# Altium footprint library QFN.PcbLib: 13 footprints
Each footprint in its own frame and in the unit in brackets; x right, y up, seen from the top. Pads: shape width x height; smd on the part's side, far side on the other; paste and mask are expansions set on the pad; w line width, h text height; cw(c..) or ccw(c..) is an arc to the next point about the centre after c.
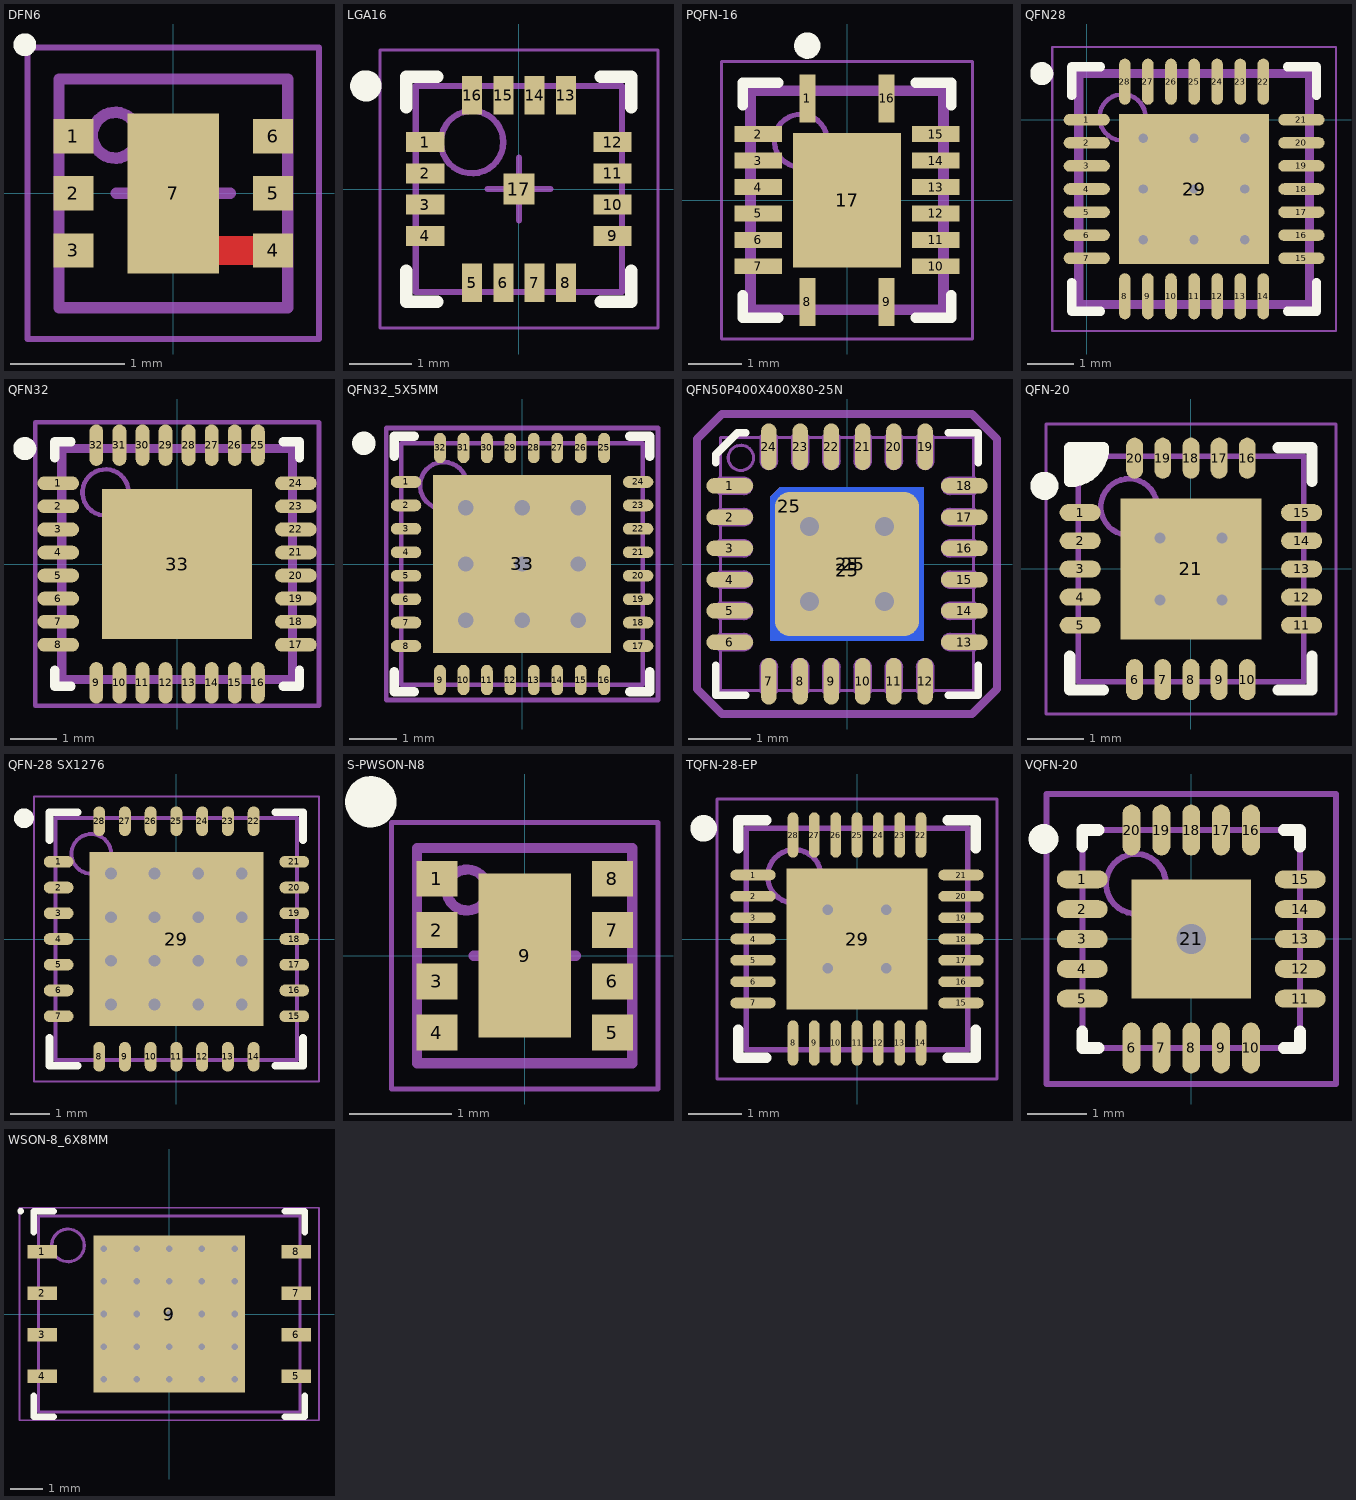
[diagram p0: the footprints below, top view; thin cyan lines are the x and y axes]

## DFN6 [mm] "DFN6 Body 2,00x2,00mm, Pitch 0,50mm, Thermal Pad 0,93x1,38mm, IPC Medium Density"
height 0.6
pads (7):
  rect 0.35x0.3 smd: 1(-0.874,0.5) 2(-0.874,0) 3(-0.874,-0.5) 4(0.874,-0.5) 5(0.874,0) 6(0.874,0.5)
  rect 0.8x1.4 smd: 7(0,0)
Top Layer:
  lines w0.255: 0.2,-0.5 0.874,-0.5
Top Overlay:
  circle w0.1: c-1.3,1.3 r0.05
Mechanical 13:
  circle w0.1: c-0.508,0.508 r0.2
  lines w0.1: -1,-1 -1,1 1,1 1,-1 -1,-1
Mechanical 15:
  lines w0.05: -1.275,-1.275 -1.275,1.275 1.275,1.275 1.275,-1.275 -1.275,-1.275
  lines w0.1: -0.5,0 0.5,0 ; 0,-0.5 0,0.5
3D body "DFN-6-2x2-0_5.STEP": height 0.8, standoff 0, extent -1.06,-1.05 1.06,1.05

## LGA16 [mm] "QFN, 16-Leads, Body 3,30x3,30mm, Pitch 0,50mm, Thermal Pad 0,50x0,50mm, IPC Medium Density"
height 1
pads (17):
  rect 0.61x0.32 smd: 1(-1.5,0.75) 2(-1.5,0.25) 3(-1.5,-0.25) 4(-1.5,-0.75) 9(1.5,-0.75) 10(1.5,-0.25) 11(1.5,0.25) 12(1.5,0.75)
  rect 0.32x0.61 smd: 5(-0.75,-1.5) 6(-0.25,-1.5) 7(0.25,-1.5) 8(0.75,-1.5) 13(0.75,1.5) 14(0.25,1.5) 15(-0.25,1.5) 16(-0.75,1.5)
  rect 0.5x0.5 smd: 17(0,0)
Top Overlay:
  circle w0.25: c-2.45,1.65 r0.125
  lines w0.2: -1.8,-1.31 -1.8,-1.8 -1.31,-1.8 ; -1.8,1.31 -1.8,1.8 -1.31,1.8 ; 1.31,-1.8 1.8,-1.8 1.8,-1.31 ; 1.31,1.8 1.8,1.8 1.8,1.31
Mechanical 13:
  circle w0.1: c-0.75,0.75 r0.5
  lines w0.1: -1.65,-1.65 1.65,-1.65 1.65,1.65 -1.65,1.65 -1.65,-1.65
Mechanical 15:
  lines w0.05: -2.225,-2.225 2.225,-2.225 2.225,2.225 -2.225,2.225 -2.225,-2.225
  lines w0.1: -0.5,0 0.5,0 ; 0,-0.5 0,0.5
3D body "QFN-16_3x3.STEP": height 0.9, standoff 0, extent -1.549,-1.521 1.493,1.521

## PQFN-16 [mm] "QFN, 16-Leads, Body 3,50x4,00mm, Pitch 1,50mm/0,50mm, Thermal Pad 2,05x2,55mm, IPC Medium Density"
height 1
pads (17):
  rect 0.3x0.9 smd: 1(-0.75,1.925) 8(-0.75,-1.925) 9(0.75,-1.925) 16(0.75,1.925)
  rect 0.9x0.3 smd: 2(-1.675,1.25) 3(-1.675,0.75) 4(-1.675,0.25) 5(-1.675,-0.25) 6(-1.675,-0.75) 7(-1.675,-1.25) 10(1.675,-1.25) 11(1.675,-0.75) 12(1.675,-0.25) 13(1.675,0.25) 14(1.675,0.75) 15(1.675,1.25)
  rect 2.05x2.55 smd: 17(0,0)
Top Overlay:
  circle w0.25: c-0.75,2.925 r0.125
  lines w0.2: -1.975,-1.8 -1.975,-2.225 -1.3,-2.225 ; -1.975,1.8 -1.975,2.225 -1.3,2.225 ; 1.3,-2.225 1.975,-2.225 1.975,-1.8 ; 1.3,2.225 1.975,2.225 1.975,1.8
Mechanical 13:
  circle w0.1: c-0.875,1.125 r0.5
  lines w0.2: -1.825,-2.075 1.825,-2.075 1.825,2.075 -1.825,2.075 -1.825,-2.075
Mechanical 15:
  lines w0.05: -2.375,-2.625 2.375,-2.625 2.375,2.625 -2.375,2.625 -2.375,-2.625
  lines w0.1: -0.5,0 0.5,0 ; 0,-0.5 0,0.5
3D body: height 1, standoff 0.05, extent -1.825,-2.075 1.825,2.075

## QFN28 [mm] "QFN, 28-Leads, Body 5,00x5,00mm, Pitch 0,50mm, Thermal Pad 3,25x3,25mm, IPC Medium Density"
height 1
pads (29):
  oval 1x0.25 smd: 1(0,0) 2(0,-0.5) 3(0,-1) 4(0,-1.5) 5(0,-2) 6(0,-2.5) 7(0,-3) 15(4.65,-3) 16(4.65,-2.5) 17(4.65,-2) 18(4.65,-1.5) 19(4.65,-1) 20(4.65,-0.5) 21(4.65,0)
  oval 0.25x1 smd: 8(0.825,-3.825) 9(1.325,-3.825) 10(1.825,-3.825) 11(2.325,-3.825) 12(2.825,-3.825) 13(3.325,-3.825) 14(3.825,-3.825) 22(3.825,0.825) 23(3.325,0.825) 24(2.825,0.825) 25(2.325,0.825) 26(1.825,0.825) 27(1.325,0.825) 28(0.825,0.825)
  rect 3.25x3.25 smd: 29(2.325,-1.5)
via 3.425,-2.6 diameter 0.5 hole 0.2
via 2.325,-2.6 diameter 0.5 hole 0.2
via 1.225,-2.6 diameter 0.5 hole 0.2
via 3.425,-1.5 diameter 0.5 hole 0.2
via 2.325,-1.5 diameter 0.5 hole 0.2
via 1.225,-1.5 diameter 0.5 hole 0.2
via 3.425,-0.4 diameter 0.5 hole 0.2
via 2.325,-0.4 diameter 0.5 hole 0.2
via 1.225,-0.4 diameter 0.5 hole 0.2
Top Overlay:
  circle w0.25: c-0.975,1 r0.125
  lines w0.2: -0.325,-3.525 -0.325,-4.15 0.3,-4.15 ; -0.325,0.525 -0.325,1.15 0.3,1.15 ; 4.35,-4.15 4.975,-4.15 4.975,-3.525 ; 4.35,1.15 4.975,1.15 4.975,0.525
Mechanical 1:
  text ".Designator" at 0.928,1.421 h1.52
Mechanical 13:
  circle w0.1: c0.775,0.05 r0.5
  lines w0.2: -0.175,-4 4.825,-4 4.825,1 -0.175,1 -0.175,-4
Mechanical 15:
  lines w0.05: -0.75,-4.575 5.4,-4.575 5.4,1.575 -0.75,1.575 -0.75,-4.575
  lines w0.1: 1.825,-1.5 2.825,-1.5 ; 2.325,-2 2.325,-1
3D body "QFN28_5x5.STEP": height 1, standoff 0, extent -0.175,-4 4.825,1

## QFN32 [mm] "QFN, 32-Leads, Body 5,00x5,00mm, Pitch 0,50mm, Thermal Pad 3,25x3,25mm, IPC Medium Density"
height 1
pads (33):
  oval 0.9x0.3 smd: 1(-2.575,1.75) 2(-2.575,1.25) 3(-2.575,0.75) 4(-2.575,0.25) 5(-2.575,-0.25) 6(-2.575,-0.75) 7(-2.575,-1.25) 8(-2.575,-1.75) 17(2.575,-1.75) 18(2.575,-1.25) 19(2.575,-0.75) 20(2.575,-0.25) 21(2.575,0.25) 22(2.575,0.75) 23(2.575,1.25) 24(2.575,1.75)
  oval 0.3x0.9 smd: 9(-1.75,-2.575) 10(-1.25,-2.575) 11(-0.75,-2.575) 12(-0.25,-2.575) 13(0.25,-2.575) 14(0.75,-2.575) 15(1.25,-2.575) 16(1.75,-2.575) 25(1.75,2.575) 26(1.25,2.575) 27(0.75,2.575) 28(0.25,2.575) 29(-0.25,2.575) 30(-0.75,2.575) 31(-1.25,2.575) 32(-1.75,2.575)
  rect 3.25x3.25 smd: 33(0,0)
Top Overlay:
  circle w0.25: c-3.3,2.5 r0.125
  lines w0.2: -2.65,-2.3 -2.65,-2.65 -2.3,-2.65 ; -2.65,2.3 -2.65,2.65 -2.3,2.65 ; 2.3,-2.65 2.65,-2.65 2.65,-2.3 ; 2.3,2.65 2.65,2.65 2.65,2.3
Mechanical 13:
  circle w0.1: c-1.55,1.55 r0.5
  lines w0.2: -2.5,-2.5 2.5,-2.5 2.5,2.5 -2.5,2.5 -2.5,-2.5
Mechanical 15:
  lines w0.1: -0.5,0 0.5,0 ; 0,-0.5 0,0.5 ; -3.075,-3.075 3.075,-3.075 3.075,3.075 -3.075,3.075 -3.075,-3.075
3D body "User Library-qfn32-5x5.step": height 0.8, standoff 0, extent -2.52,-2.51 2.5,2.51

## QFN32_5X5MM [mm] "QFN, 32-Leads, Body 5x5mm, Pitch 0.5mm, IPC High Density"
height 1
pads (33):
  oval 0.65x0.25 smd: 1(-2.475,1.75) 2(-2.475,1.25) 3(-2.475,0.75) 4(-2.475,0.25) 5(-2.475,-0.25) 6(-2.475,-0.75) 7(-2.475,-1.25) 8(-2.475,-1.75) 17(2.475,-1.75) 18(2.475,-1.25) 19(2.475,-0.75) 20(2.475,-0.25) 21(2.475,0.25) 22(2.475,0.75) 23(2.475,1.25) 24(2.475,1.75)
  oval 0.25x0.65 smd: 9(-1.75,-2.475) 10(-1.25,-2.475) 11(-0.75,-2.475) 12(-0.25,-2.475) 13(0.25,-2.475) 14(0.75,-2.475) 15(1.25,-2.475) 16(1.75,-2.475) 25(1.75,2.475) 26(1.25,2.475) 27(0.75,2.475) 28(0.25,2.475) 29(-0.25,2.475) 30(-0.75,2.475) 31(-1.25,2.475) 32(-1.75,2.475)
  rect 3.8x3.8 smd: 33(0,0)
via 1.2,-1.2 diameter 0.66 hole 0.33
via 0,-1.2 diameter 0.66 hole 0.33
via -1.2,-1.2 diameter 0.66 hole 0.33
via 1.2,0 diameter 0.66 hole 0.33
via 0,0 diameter 0.66 hole 0.33
via -1.2,0 diameter 0.66 hole 0.33
via 1.2,1.2 diameter 0.66 hole 0.33
via 0,1.2 diameter 0.66 hole 0.33
via -1.2,1.2 diameter 0.66 hole 0.33
Top Overlay:
  circle w0.25: c-3.375,2.575 r0.125
  lines w0.2: -2.725,-2.3 -2.725,-2.725 -2.3,-2.725 ; -2.725,2.3 -2.725,2.725 -2.3,2.725 ; 2.3,-2.725 2.725,-2.725 2.725,-2.3 ; 2.3,2.725 2.725,2.725 2.725,2.3
Mechanical 13:
  circle w0.1: c-1.675,1.675 r0.5
  lines w0.1: -2.575,-2.575 2.575,-2.575 2.575,2.575 -2.575,2.575 -2.575,-2.575
Mechanical 15:
  lines w0.1: -0.5,0 0.5,0 ; 0,-0.5 0,0.5 ; -2.9,-2.9 2.9,-2.9 2.9,2.9 -2.9,2.9 -2.9,-2.9
3D body "qfn32-5x5.step": height 0.8, standoff 0, extent -2.52,-2.51 2.5,2.51

## QFN50P400X400X80-25N [mm] "QFN, 24-Leads with exposed die pad, Body 4.05x4.05mm (max), Pitch 0.50mm, IPC Medium Density"
height 0.8
pads (28):
  oval 0.75x0.25 smd mask+0.075: 1(-1.875,1.25) 2(-1.875,0.75) 3(-1.875,0.25) 4(-1.875,-0.25) 5(-1.875,-0.75) 6(-1.875,-1.25) 13(1.875,-1.25) 14(1.875,-0.75) 15(1.875,-0.25) 16(1.875,0.25) 17(1.875,0.75) 18(1.875,1.25)
  oval 0.25x0.75 smd mask+0.075: 7(-1.25,-1.875) 8(-0.75,-1.875) 9(-0.25,-1.875) 10(0.25,-1.875) 11(0.75,-1.875) 12(1.25,-1.875) 19(1.25,1.875) 20(0.75,1.875) 21(0.25,1.875) 22(-0.25,1.875) 23(-0.75,1.875) 24(-1.25,1.875)
  oct 0.6x0.6 smd far side paste-1.7: 25(-0.925,0.925)
  rrect1% 2.45x2.25 smd far side paste-1.7: 25(0,-0.1)
  rrect20% 2.3x2.3 smd paste-1.7: 25(0,0)
  rrect1% 2.25x2.45 smd far side paste-1.7: 25(0.1,0)
via -0.6,0.6 diameter 0.4 hole 0.3
via 0.6,0.6 diameter 0.4 hole 0.3
via 0.6,-0.6 diameter 0.4 hole 0.3
via -0.6,-0.6 diameter 0.4 hole 0.3
Top Layer:
  region: -1.075,1.225 -1.225,1.075 -1.225,-1.225 -1.075,-1.225
  region: -1.225,1.075 -1.075,1.225 1.225,1.225 1.225,1.075
  region: 1.225,-1.225 1.225,-1.025 -1.225,-1.025 -1.225,-1.225
  region: 1.025,-1.225 1.225,-1.225 1.225,1.225 1.025,1.225
Top Overlay:
  lines w0.127: -2.1,-1.625 -2.1,-2.1 -1.625,-2.1 ; -2.1,1.625 -2.1,1.75 -1.75,2.1 -1.625,2.1 ; 1.625,-2.1 2.1,-2.1 2.1,-1.625 ; 1.625,2.1 2.1,2.1 2.1,1.625
  text "." at -2.63,1.25 h0.05
Top Paste:
  region: -1.1,-0.3 -1.1,0.3 -1,0.4 -0.5,0.4 -0.4,0.5 -0.4,1 -0.3,1.1 0.3,1.1 0.4,1 0.4,0.5 0.5,0.4 1,0.4 1.1,0.3 1.1,-0.3 1,-0.4 0.5,-0.4 0.4,-0.5 0.4,-1 0.3,-1.1 -0.3,-1.1 -0.4,-1 -0.4,-0.5 -0.5,-0.4 -1,-0.4
Bottom Paste:
  region: 0.2,1 -0.2,1 -0.4,0.8 -0.4,0.5 -0.5,0.4 -0.8,0.4 -1,0.2 -1,-0.2 -0.8,-0.4 -0.5,-0.4 -0.4,-0.5 -0.4,-0.8 -0.2,-1 0.2,-1 0.4,-0.8 0.4,-0.5 0.5,-0.4 0.8,-0.4 1,-0.2 1,0.2 0.8,0.4 0.5,0.4 0.4,0.5 0.4,0.8
Top Solder:
  circle w0.4: c-0.6,0.6 r0.4
  circle w0.4: c0.6,0.6 r0.4
  circle w0.4: c0.6,-0.6 r0.4
  circle w0.4: c-0.6,-0.6 r0.4
  region: 1.225,-0.3 1.225,0.3 -1.2,0.3 -1.2,-0.3
  rectangle: -0.3,-1.225 0.3,1.2
Mechanical 13:
  circle w0.05: c-1.698,1.698 r0.202
  lines w0.05: -2.025,-1.375 -2.025,-2.025 -1.375,-2.025 ; -2.025,-1.125 -2.025,-0.875 ; -2.025,-0.625 -2.025,-0.375 ; -2.025,-0.125 -2.025,0.125 ; -2.025,0.375 -2.025,0.625 ; -2.025,0.875 -2.025,1.125 ; -2.025,1.375 -2.025,2.025 -1.375,2.025 ; -1.125,-2.025 -0.875,-2.025 ; -1.125,2.025 -0.875,2.025 ; -0.625,-2.025 -0.375,-2.025 ; -0.625,2.025 -0.375,2.025 ; -0.125,-2.025 0.125,-2.025 ; -0.125,2.025 0.125,2.025 ; 0.375,-2.025 0.625,-2.025 ; 0.375,2.025 0.625,2.025 ; 0.875,-2.025 1.125,-2.025 ; 0.875,2.025 1.125,2.025 ; 1.375,-2.025 2.025,-2.025 2.025,-1.375 ; 1.375,2.025 2.025,2.025 2.025,1.375 ; 2.025,-1.125 2.025,-0.875 ; 2.025,-0.625 2.025,-0.375 ; 2.025,-0.125 2.025,0.125 ; 2.025,0.375 2.025,0.625 ; 2.025,0.875 2.025,1.125 ; -2.045,-1.375 -2.045,-1.125 -1.65,-1.125 cw(c-1.65,-1.25) -1.65,-1.375 -2.045,-1.375 ; -2.045,-0.875 -2.045,-0.625 -1.65,-0.625 cw(c-1.65,-0.75) -1.65,-0.875 -2.045,-0.875 ; -2.045,-0.375 -2.045,-0.125 -1.65,-0.125 cw(c-1.65,-0.25) -1.65,-0.375 -2.045,-0.375 ; -2.045,0.125 -2.045,0.375 -1.65,0.375 cw(c-1.65,0.25) -1.65,0.125 -2.045,0.125 ; -2.045,0.625 -2.045,0.875 -1.65,0.875 cw(c-1.65,0.75) -1.65,0.625 -2.045,0.625 ; -2.045,1.125 -2.045,1.375 -1.65,1.375 cw(c-1.65,1.25) -1.65,1.125 -2.045,1.125 ; -1.375,-2.045 -1.125,-2.045 -1.125,-1.65 ccw(c-1.25,-1.65) -1.375,-1.65 -1.375,-2.045 ; -1.375,1.65 ccw(c-1.25,1.65) -1.125,1.65 -1.125,2.045 -1.375,2.045 -1.375,1.65 ; -0.875,-2.045 -0.625,-2.045 -0.625,-1.65 ccw(c-0.75,-1.65) -0.875,-1.65 -0.875,-2.045 ; -0.875,1.65 ccw(c-0.75,1.65) -0.625,1.65 -0.625,2.045 -0.875,2.045 -0.875,1.65 ; -0.375,-2.045 -0.125,-2.045 -0.125,-1.65 ccw(c-0.25,-1.65) -0.375,-1.65 -0.375,-2.045 ; -0.375,1.65 ccw(c-0.25,1.65) -0.125,1.65 -0.125,2.045 -0.375,2.045 -0.375,1.65 ; 0.125,-2.045 0.375,-2.045 0.375,-1.65 ccw(c0.25,-1.65) 0.125,-1.65 0.125,-2.045 ; 0.125,1.65 ccw(c0.25,1.65) 0.375,1.65 0.375,2.045 0.125,2.045 0.125,1.65 ; 0.625,-2.045 0.875,-2.045 0.875,-1.65 ccw(c0.75,-1.65) 0.625,-1.65 0.625,-2.045 ; 0.625,1.65 ccw(c0.75,1.65) 0.875,1.65 0.875,2.045 0.625,2.045 0.625,1.65 ; 1.125,-2.045 1.375,-2.045 1.375,-1.65 ccw(c1.25,-1.65) 1.125,-1.65 1.125,-2.045 ; 1.125,1.65 ccw(c1.25,1.65) 1.375,1.65 1.375,2.045 1.125,2.045 1.125,1.65 ; 1.65,-1.375 cw(c1.65,-1.25) 1.65,-1.125 2.045,-1.125 2.045,-1.375 1.65,-1.375 ; 1.65,-0.875 cw(c1.65,-0.75) 1.65,-0.625 2.045,-0.625 2.045,-0.875 1.65,-0.875 ; 1.65,-0.375 cw(c1.65,-0.25) 1.65,-0.125 2.045,-0.125 2.045,-0.375 1.65,-0.375 ; 1.65,0.125 cw(c1.65,0.25) 1.65,0.375 2.045,0.375 2.045,0.125 1.65,0.125 ; 1.65,0.625 cw(c1.65,0.75) 1.65,0.875 2.045,0.875 2.045,0.625 1.65,0.625 ; 1.65,1.125 cw(c1.65,1.25) 1.65,1.375 2.045,1.375 2.045,1.125 1.65,1.125
Mechanical 15:
  lines w0.127: -2.4,-2 -2,-2.4 2,-2.4 2.4,-2 2.4,2 2,2.4 -2,2.4 -2.4,2 -2.4,-2
3D body "QFN50P400X400X80-25N.STEP": height 0.8, standoff 0, extent -2.045,-2.045 2.045,2.045

## QFN-20 [mm] "QFN, 20-Leads, Body 4.00x4.00mm, Pitch 0.50mm, Thermal Pad 2.50x2.50mm, IPC Medium Density"
height 1
pads (21):
  oval 0.73x0.3 smd: 1(-1.965,1) 2(-1.965,0.5) 3(-1.965,0) 4(-1.965,-0.5) 5(-1.965,-1) 11(1.965,-1) 12(1.965,-0.5) 13(1.965,0) 14(1.965,0.5) 15(1.965,1)
  oval 0.3x0.73 smd: 6(-1,-1.965) 7(-0.5,-1.965) 8(0,-1.965) 9(0.5,-1.965) 10(1,-1.965) 16(1,1.965) 17(0.5,1.965) 18(0,1.965) 19(-0.5,1.965) 20(-1,1.965)
  rect 2.5x2.5 smd: 21(0,0)
via 0.55,-0.55 diameter 0.5 hole 0.2
via -0.55,-0.55 diameter 0.5 hole 0.2
via 0.55,0.55 diameter 0.5 hole 0.2
via -0.55,0.55 diameter 0.5 hole 0.2
Top Overlay:
  circle w0.25: c-2.6,1.475 r0.125
  region: -1.55,2.15 -2.15,2.15 -2.15,1.55 -1.925,1.55 -1.55,1.925
  lines w0.2: -2.15,-1.55 -2.15,-2.15 -1.55,-2.15 ; 1.55,-2.15 2.15,-2.15 2.15,-1.55 ; 1.55,2.15 2.15,2.15 2.15,1.55 ; -2.15,1.55 ccw(c-2.15,2.15) -1.55,2.15 -2.15,2.15 -2.15,1.55
Mechanical 13:
  circle w0.1: c-1.1,1.1 r0.5
  lines w0.1: -2,-2 2,-2 2,2 -2,2 -2,-2
Mechanical 15:
  lines w0.05: -2.575,-2.575 2.575,-2.575 2.575,2.575 -2.575,2.575 -2.575,-2.575
  lines w0.1: -0.5,0 0.5,0 ; 0,-0.5 0,0.5
3D body "User Library-QFN20_4x4x0_8.step": height 0.78, standoff -0.02, extent -2.01,-2.01 2.01,2.01

## QFN-28 SX1276 [mm] "QFN, 28-Leads, Body 6,00x6,00mm, Pitch 0,65mm, Thermal Pad 4,78x4,78mm, IPC Medium Density"
height 1
pads (29):
  oval 0.75x0.3 smd: 1(-2.975,1.95) 2(-2.975,1.3) 3(-2.975,0.65) 4(-2.975,0) 5(-2.975,-0.65) 6(-2.975,-1.3) 7(-2.975,-1.95) 15(2.975,-1.95) 16(2.975,-1.3) 17(2.975,-0.65) 18(2.975,0) 19(2.975,0.65) 20(2.975,1.3) 21(2.975,1.95)
  oval 0.3x0.75 smd: 8(-1.95,-2.975) 9(-1.3,-2.975) 10(-0.65,-2.975) 11(0,-2.975) 12(0.65,-2.975) 13(1.3,-2.975) 14(1.95,-2.975) 22(1.95,2.975) 23(1.3,2.975) 24(0.65,2.975) 25(0,2.975) 26(-0.65,2.975) 27(-1.3,2.975) 28(-1.95,2.975)
  rect 4.4x4.4 smd: 29(0,0)
via 1.65,-1.65 diameter 0.6 hole 0.3
via 0.55,-1.65 diameter 0.6 hole 0.3
via -0.55,-1.65 diameter 0.6 hole 0.3
via -1.65,-1.65 diameter 0.6 hole 0.3
via 1.65,-0.55 diameter 0.6 hole 0.3
via 0.55,-0.55 diameter 0.6 hole 0.3
via -0.55,-0.55 diameter 0.6 hole 0.3
via -1.65,-0.55 diameter 0.6 hole 0.3
via 1.65,0.55 diameter 0.6 hole 0.3
via 0.55,0.55 diameter 0.6 hole 0.3
via -0.55,0.55 diameter 0.6 hole 0.3
via -1.65,0.55 diameter 0.6 hole 0.3
via 1.65,1.65 diameter 0.6 hole 0.3
via 0.55,1.65 diameter 0.6 hole 0.3
via -0.55,1.65 diameter 0.6 hole 0.3
via -1.65,1.65 diameter 0.6 hole 0.3
Top Overlay:
  circle w0.25: c-3.85,3.05 r0.125
  lines w0.2: -3.2,-2.5 -3.2,-3.2 -2.5,-3.2 ; -3.2,2.5 -3.2,3.2 -2.5,3.2 ; 2.5,-3.2 3.2,-3.2 3.2,-2.5 ; 2.5,3.2 3.2,3.2 3.2,2.5
Mechanical 13:
  circle w0.1: c-2.15,2.15 r0.5
  lines w0.1: -3.05,-3.05 3.05,-3.05 3.05,3.05 -3.05,3.05 -3.05,-3.05
Mechanical 15:
  lines w0.05: -3.6,-3.6 3.6,-3.6 3.6,3.6 -3.6,3.6 -3.6,-3.6
  lines w0.1: -0.5,0 0.5,0 ; 0,-0.5 0,0.5
3D body "User Library-QFN 28-Pin 0_65mm Pitch.step": height 1, standoff 0, extent -3.01,-3.01 3.01,3.01

## S-PWSON-N8 [mm] "PQFN, 8-Leads, Body 2,00x2,00mm, Pitch 0,50mm, Thermal Pad 0,90x1,60mm, IPC Medium Density"
height 0.8
pads (9):
  rect 0.4x0.35 smd: 1(-0.855,0.75) 2(-0.855,0.25) 3(-0.855,-0.25) 4(-0.855,-0.75) 5(0.855,-0.75) 6(0.855,-0.25) 7(0.855,0.25) 8(0.855,0.75)
  rect 0.9x1.6 smd: 9(0,0)
Top Overlay:
  circle w0.25: c-1.5,1.5 r0.125
Mechanical 13:
  circle w0.1: c-0.56,0.64 r0.2
  lines w0.1: -1.05,-1.05 -1.05,1.05 1.05,1.05 1.05,-1.05 -1.05,-1.05
Mechanical 15:
  lines w0.05: -1.3,-1.3 -1.3,1.3 1.3,1.3 1.3,-1.3 -1.3,-1.3
  lines w0.1: -0.5,0 0.5,0 ; 0,-0.5 0,0.5
3D body "DSG (S-PWSON-N8).step": height 0.79, standoff -0.01, extent -1.05,-1.05 1.05,1.05

## TQFN-28-EP [mm] "QFN, 28-Leads, Body 4,00x4,00mm, Pitch 0,40mm, Thermal Pad 2,65x2,65mm, IPC Medium Density"
height 0.75
pads (29):
  oval 0.85x0.2 smd: 1(-1.95,1.2) 2(-1.95,0.8) 3(-1.95,0.4) 4(-1.95,0) 5(-1.95,-0.4) 6(-1.95,-0.8) 7(-1.95,-1.2) 15(1.95,-1.2) 16(1.95,-0.8) 17(1.95,-0.4) 18(1.95,0) 19(1.95,0.4) 20(1.95,0.8) 21(1.95,1.2)
  oval 0.2x0.85 smd: 8(-1.2,-1.95) 9(-0.8,-1.95) 10(-0.4,-1.95) 11(0,-1.95) 12(0.4,-1.95) 13(0.8,-1.95) 14(1.2,-1.95) 22(1.2,1.95) 23(0.8,1.95) 24(0.4,1.95) 25(0,1.95) 26(-0.4,1.95) 27(-0.8,1.95) 28(-1.2,1.95)
  rect 2.65x2.65 smd: 29(0,0)
via 0.55,-0.55 diameter 0.5 hole 0.2
via -0.55,-0.55 diameter 0.5 hole 0.2
via 0.55,0.55 diameter 0.5 hole 0.2
via -0.55,0.55 diameter 0.5 hole 0.2
Top Overlay:
  circle w0.25: c-2.875,2.075 r0.125
  lines w0.2: -2.225,-1.7 -2.225,-2.225 -1.7,-2.225 ; -2.225,1.7 -2.225,2.225 -1.7,2.225 ; 1.7,-2.225 2.225,-2.225 2.225,-1.7 ; 1.7,2.225 2.225,2.225 2.225,1.7
Mechanical 13:
  circle w0.1: c-1.175,1.175 r0.5
  lines w0.1: -2.075,-2.075 2.075,-2.075 2.075,2.075 -2.075,2.075 -2.075,-2.075
Mechanical 15:
  lines w0.05: -2.625,-2.625 2.625,-2.625 2.625,2.625 -2.625,2.625 -2.625,-2.625
  lines w0.1: -0.5,0 0.5,0 ; 0,-0.5 0,0.5
3D body "User Library-QFN28-0_4.STEP": height 0.75, standoff 0, extent -2,-2 2,2

## VQFN-20 [mm] "PQFN, 20-Leads, Body 3,50x3,50mm, Pitch 0,50mm, Thermal Pad 2,00x2,00mm, IPC Medium Density"
height 1
pads (21):
  oval 0.85x0.3 smd: 1(-1.825,1) 2(-1.825,0.5) 3(-1.825,0) 4(-1.825,-0.5) 5(-1.825,-1) 11(1.825,-1) 12(1.825,-0.5) 13(1.825,0) 14(1.825,0.5) 15(1.825,1)
  oval 0.3x0.85 smd: 6(-1,-1.825) 7(-0.5,-1.825) 8(0,-1.825) 9(0.5,-1.825) 10(1,-1.825) 16(1,1.825) 17(0.5,1.825) 18(0,1.825) 19(-0.5,1.825) 20(-1,1.825)
  rect 2x2 smd: 21(0,0)
via 0,0 diameter 1 hole 0.5
Top Overlay:
  circle w0.25: c-2.475,1.675 r0.125
  lines w0.2: -1.825,-1.55 -1.825,-1.825 -1.55,-1.825 ; -1.825,1.55 -1.825,1.825 -1.55,1.825 ; 1.55,-1.825 1.825,-1.825 1.825,-1.55 ; 1.55,1.825 1.825,1.825 1.825,1.55
Mechanical 13:
  circle w0.1: c-0.925,0.925 r0.5
  lines w0.1: -1.825,-1.825 -1.825,1.825 1.825,1.825 1.825,-1.825 -1.825,-1.825
Mechanical 15:
  lines w0.1: -0.5,0 0.5,0 ; 0,-0.5 0,0.5 ; -2.425,-2.425 -2.425,2.425 2.425,2.425 2.425,-2.425 -2.425,-2.425
3D body "VQFN-20.STEP": height 1, standoff 0, extent -2.08,-2.08 2.08,2.08

## WSON-8_6X8MM [mm] "SON, 8-Leads, Body 6,00x8,00mm, Pitch 1,27mm, Thermal Pad 4,80x4,65mm, IPC Medium Density"
height 0.75
pads (9):
  rect 0.9x0.4 smd mask+0: 1(-3.89,1.905) 2(-3.89,0.635) 3(-3.89,-0.635) 4(-3.89,-1.905) 5(3.89,-1.905) 6(3.89,-0.635) 7(3.89,0.635) 8(3.89,1.905)
  rect 4.65x4.8 smd paste-2.325 mask+0: 9(0,0)
via -2,2 diameter 0.5 hole 0.2
via -1,2 diameter 0.5 hole 0.2
via 0,2 diameter 0.5 hole 0.2
via 1,2 diameter 0.5 hole 0.2
via 2,2 diameter 0.5 hole 0.2
via -2,1 diameter 0.5 hole 0.2
via -1,1 diameter 0.5 hole 0.2
via 0,1 diameter 0.5 hole 0.2
via 1,1 diameter 0.5 hole 0.2
via 2,1 diameter 0.5 hole 0.2
via -2,0 diameter 0.5 hole 0.2
via -1,0 diameter 0.5 hole 0.2
via 0,0 diameter 0.5 hole 0.2
via 1,0 diameter 0.5 hole 0.2
via 2,0 diameter 0.5 hole 0.2
via -2,-1 diameter 0.5 hole 0.2
via -1,-1 diameter 0.5 hole 0.2
via 0,-1 diameter 0.5 hole 0.2
via 1,-1 diameter 0.5 hole 0.2
via 2,-1 diameter 0.5 hole 0.2
via -2,-2 diameter 0.5 hole 0.2
via -1,-2 diameter 0.5 hole 0.2
via 0,-2 diameter 0.5 hole 0.2
via 1,-2 diameter 0.5 hole 0.2
via 2,-2 diameter 0.5 hole 0.2
Top Overlay:
  circle w0.1: c-4.55,3.15 r0.05
  lines w0.2: -4.15,-2.505 -4.15,-3.15 -3.54,-3.15 ; -4.15,2.505 -4.15,3.15 -3.54,3.15 ; 3.54,-3.15 4.15,-3.15 4.15,-2.505 ; 3.54,3.15 4.15,3.15 4.15,2.505
Top Paste:
  rectangle: -2.22,1.3 -1.26,2.3
  rectangle: -2.22,0.1 -1.26,1.1
  rectangle: -2.22,-1.1 -1.26,-0.1
  rectangle: -2.22,-2.3 -1.26,-1.3
  rectangle: -1.06,1.3 -0.1,2.3
  rectangle: -1.06,0.1 -0.1,1.1
  rectangle: -1.06,-1.1 -0.1,-0.1
  rectangle: -1.06,-2.3 -0.1,-1.3
  rectangle: 0.1,1.3 1.06,2.3
  rectangle: 0.1,0.1 1.06,1.1
  rectangle: 0.1,-1.1 1.06,-0.1
  rectangle: 0.1,-2.3 1.06,-1.3
  rectangle: 1.26,1.3 2.22,2.3
  rectangle: 1.26,0.1 2.22,1.1
  rectangle: 1.26,-1.1 2.22,-0.1
  rectangle: 1.26,-2.3 2.22,-1.3
Mechanical 13:
  circle w0.1: c-3.1,2.1 r0.5
  lines w0.1: -4,-3 -4,3 4,3 4,-3 -4,-3
Mechanical 15:
  lines w0.05: -4.585,-3.25 -4.585,3.25 4.585,3.25 4.585,-3.25 -4.585,-3.25
  lines w0.1: -0.5,0 0.5,0 ; 0,-0.5 0,0.5
3D body "WSON-8_6x8mm.STEP": height 0.81, standoff -0.07, extent -4,-3 4,3